# EAGLE library part ISL29001 (library Jeff)
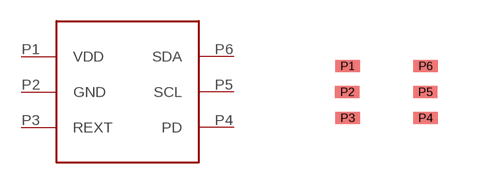
[diagram p5: symbol with the pads of ODFN; footprint ODFN]

Designator prefix -

## ISL29001  [ODFN]
P1  VDD
P2  GND
P3  REXT
P4  PD
P5  SCL
P6  SDA

## Footprint ODFN (pad centres in mm)
smd 0.61 x 0.305: P1 -0.93,0.56; P2 -0.935,-0.09; P3 -0.93,-0.74; P4 1.02,-0.74; P5 1.015,-0.09; P6 1.025,0.56